# Altium schematic symbol library minh_schLIB.SchLib: 5 symbols
Pins are listed as number, name and electrical type; pins without a type are passive.

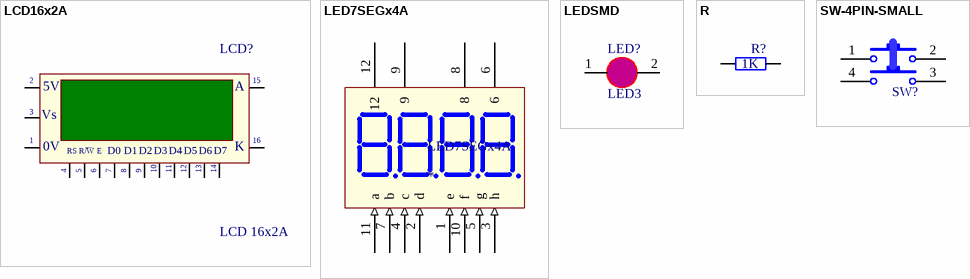
[diagram p0: symbols LCD16x2A to SW-4PIN-SMALL]

## LCD16x2A
designator LCD?, comment LCD 16x2A
LCD dipslay 16 char, 2 line; Value: LCD16x2A
footprint LCD16X2 (LCD dipslay 16x2, 16 pin)
pins: 1 GND, 2 VDD, 3 VEE, 4 RS, 5 R/~{W}, 6 ~{EN}, 7 D0, 8 D1, 9 D2, 10 D3, 11 D4, 12 D5, 13 D6, 14 D7, 15 A, 16 K
text: 5V; Vs; |; 0V; R/W; E

## LED7SEGx4A
designator LED7SEGx4A
0.36''
footprint LED7SEGx4A (DIP 12 Leads; Body 32x 15 mm; Pitch 0.5 mm)
pins: 1 e (in), 2 d (in), 3 h (in), 4 c (in), 5 g (in), 6, 7 b (in), 8, 9, 10 f (in), 11 a (in), 12

## LEDSMD
designator LED?, comment LED3
LED SMD
footprint SMD0805LED (Chip LED, Body 2.0 x 1.3 mm (LxW typ))
pins: 1 A, 2 K

## R
designator R?  value 1K  (hidden comment: R)
RES_08; Published: 8-Jun-2000; LatestRevisionDate: 17-Jul-2002; LatestRevisionNote: Re-released for DXP Platform.; PackageReference: AXIAL-0.4; Publisher: Altium Limited
footprint SMD1206R
footprint SMD0805R (Chip Resistor; Body 2.0 x 1.3 mm (LxW typ))
pins: 1, 2

## SW-4PIN-SMALL
designator SW?, comment SW-4P-S  (value not drawn)
Switch Small 4 Pin; Published: 24-Mar-1999; LatestRevisionDate: 17-Jul-2002; LatestRevisionNote: Re-released for DXP Platform.; PackageReference: SPST-2; Publisher: Altium Limited
footprint SW4 (SW button 4pin, 6x6x3mm)
pins: 1, 2, 3, 4